# Altium footprint library MK_LGA-8(6x8).PcbLib: 1 footprints
Each footprint in its own frame and in the unit in brackets; x right, y up, seen from the top. Pads: shape width x height; smd on the part's side, far side on the other; paste and mask are expansions set on the pad; w line width, h text height; cw(c..) or ccw(c..) is an arc to the next point about the centre after c.
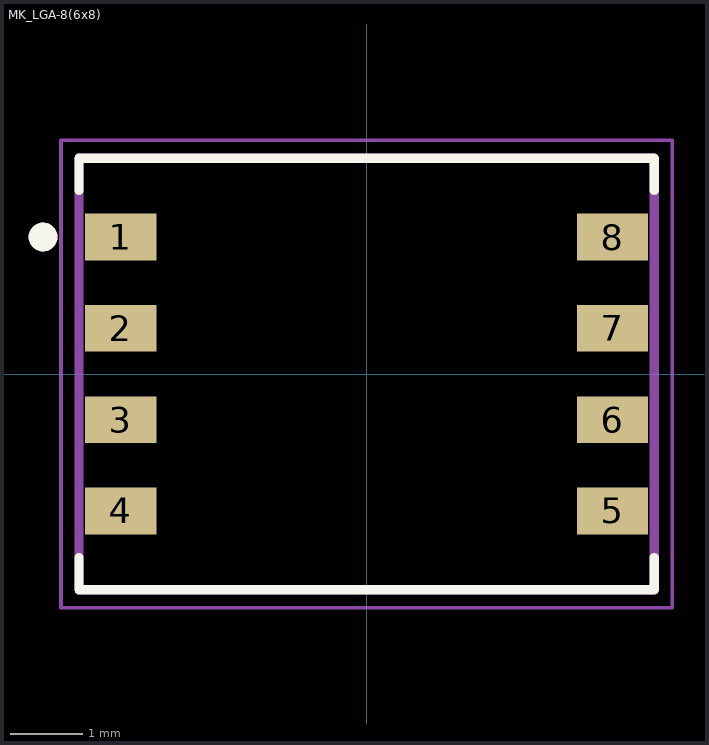
[diagram p0: the footprint, top view; thin cyan lines are the x and y axes]

## MK_LGA-8(6x8) [mm]
pads (8):
  rect 0.99x0.65 smd: 1(-3.42,1.905) 2(-3.42,0.635) 3(-3.42,-0.635) 4(-3.42,-1.905) 5(3.42,-1.905) 6(3.42,-0.635) 7(3.42,0.635) 8(3.42,1.905)
Top Overlay:
  circle w0.2: c-4.5,1.905 r0.1
  lines w0.127: -4,-2.55 -4,-3 4,-3 4,-2.55 ; -4,2.55 -4,3 4,3 4,2.55
Top 3D Body:
  circle w0.2: c-4.5,1.905 r0.1
  lines w0.127: -4,-3 4,-3 4,3 -4,3 -4,-3
Top Courtyard:
  lines w0.05: -4.25,-3.25 4.25,-3.25 4.25,3.25 -4.25,3.25 -4.25,-3.25
3D body "step_temp.STEP": height 0.9, standoff 0, extent -4,-3 4,3